# EAGLE library part CONNECTOR-MICROSD (library VinodSDcard)
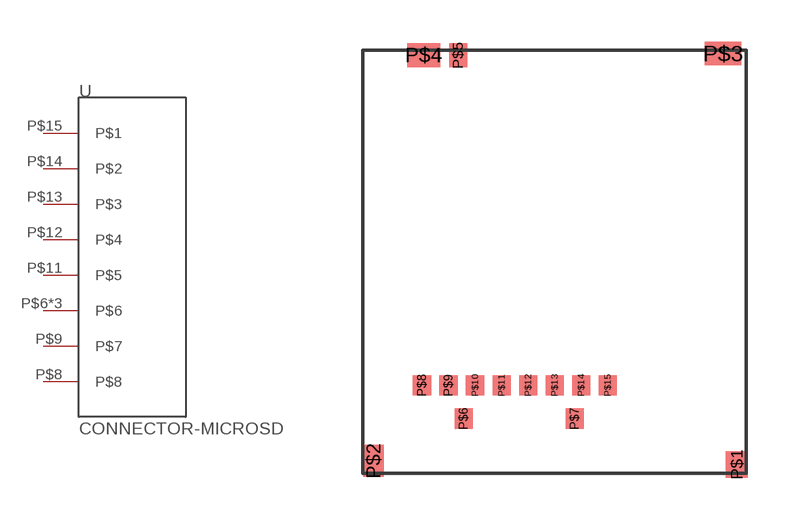
[diagram p0: symbol with the pads of CONNECTOR-MICROSD; footprint CONNECTOR-MICROSD]

Designator prefix -

## CONNECTOR-MICROSD  [CONNECTOR-MICROSD]
P$6  P$6
P$7  P$6
P$8  P$8
P$9  P$7
P$10  P$6
P$11  P$5
P$12  P$4
P$13  P$3
P$14  P$2
P$15  P$1

## Footprint CONNECTOR-MICROSD (pad centres in mm)
smd 0.8 x 0.95: P$1 13.48,0.31
smd 0.745 x 1.15: P$2 0.39,0.45
smd 1.3 x 0.85: P$3 12.98,15.14
smd 1.2 x 0.85: P$4 2.2,15.075
smd 0.65 x 0.85: P$5 3.438,15.075
smd 0.65 x 0.725: P$6 3.638,1.975; P$7 7.638,1.975; P$8 2.138,3.175; P$9 3.092,3.175; P$10 4.048,3.175; P$11 5.003,3.175; P$12 5.957,3.175; P$13 6.912,3.175; P$14 7.867,3.175; P$15 8.822,3.175